# Altium schematic symbol library Стабилизаторы.SchLib: 7 symbols
Pins are listed as number, name and electrical type; pins without a type are passive.

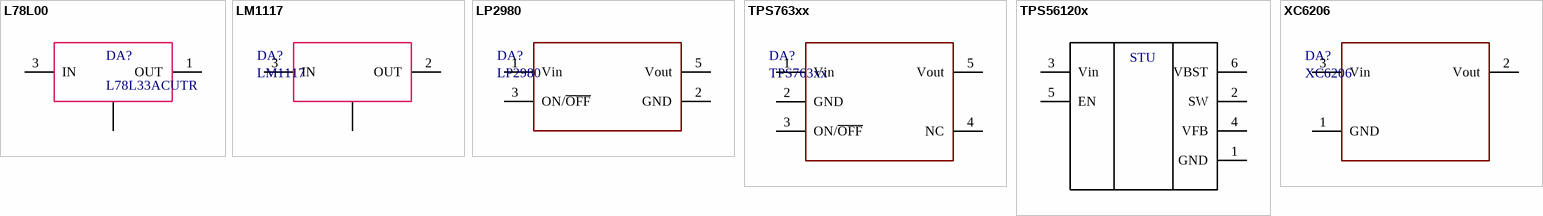
[diagram p0: symbols L78L00 to XC6206]

## L78L00
designator DA?, comment L78L33ACUTR
Value: L78L33ACUTR
footprint SOT223 (SOT223, 4-Leads, Body 6,50x7,00mm (avg), Pitch 2,30mm, IPC Medium Density)
pins: 1 OUT, 2 GND, 3 IN

## LM1117
designator DA?
footprint SOT223 (SOT223, 4-Leads, Body 6,50x7,00mm (avg), Pitch 2,30mm, IPC Medium Density)
pins: 1 GND, 2 OUT, 3 IN

## LP2980
designator DA?
footprint SOT95P245X110-5N (SOT23, 5-Leads, Body 2,90x2,45mm, Pitch 0,95mm, IPC Medium Density)
pins: 1 Vin, 2 GND, 3 ON/~{OFF}, 5 Vout

## TPS763xx
designator DA?
footprint SOT95P245X110-5N (SOT23, 5-Leads, Body 2,90x2,45mm, Pitch 0,95mm, IPC Medium Density)
pins: 1 Vin, 2 GND, 3 ON/~{OFF}, 4 NC, 5 Vout

## TPS56120x
designator DA?  (value not drawn)
ManufacturerPartNumber: TPS561208DDCT; Корпус: SOT23-6; Rem: *; Tolerance: *; Power/Voltage: *; TKE: *; Manufacturer: Manufacturer; Quantity: *; Примечание: *
footprint SOT23-6 (SOT23, 6-Leads, Body 2,90x2,45mm, Pitch 0,95mm, IPC Medium Density)
pins: 1 GND, 2 SW, 3 Vin, 4 VFB, 5 EN, 6 VBST
text: STU

## XC6206
designator DA?
footprint SOT23-3
pins: 1 GND, 2 Vout, 3 Vin

## РЫБА
designator C?  (value not drawn)
Rem: *; Корпус: *; Value: *; Tolerance: *; Power/Voltage: *; TKE: *; ManufacturerPartNumber: *; Manufacturer: *; Quantity: *; Примечание: *